# EAGLE library part MAX9850 (library cruz_technologies)
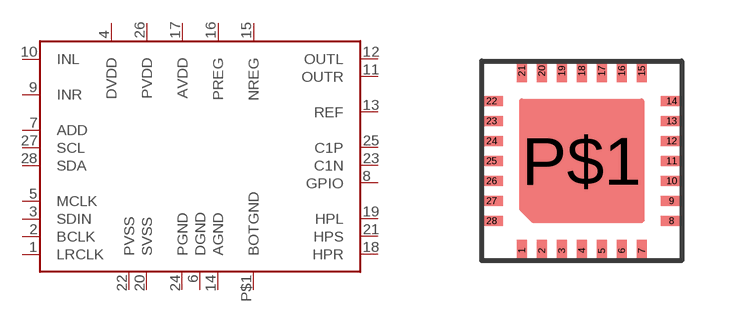
[diagram p8: symbol with the pads of TQFN28; footprint TQFN28]

Designator prefix -

## MAX9850  [TQFN28]
1  LRCLK
2  BCLK
3  SDIN
4  DVDD
5  MCLK
6  DGND
7  ADD
8  GPIO
9  INR
10  INL
11  OUTR
12  OUTL
13  REF
14  AGND
15  NREG
16  PREG
17  AVDD
18  HPR
19  HPL
20  SVSS
21  HPS
22  PVSS
23  C1N
24  PGND
25  C1P
26  PVDD
27  SCL
28  SDA
P$1  BOTGND

## Footprint TQFN28 (pad centres in mm)
smd 0.25 x 0.55: 1 -1.5,-2.25; 2 -1,-2.25; 3 -0.5,-2.25; 4 0,-2.25; 5 0.5,-2.25; 6 1,-2.25; 7 1.5,-2.25; 15 1.5,2.25; 16 1,2.25; 17 0.5,2.25; 18 0,2.25; 19 -0.5,2.25; 20 -1,2.25; 21 -1.5,2.25
smd 0.55 x 0.25: 8 2.25,-1.5; 9 2.25,-1; 10 2.25,-0.5; 11 2.25,0; 12 2.25,0.5; 13 2.25,1; 14 2.25,1.5; 22 -2.25,1.5; 23 -2.25,1; 24 -2.25,0.5; 25 -2.25,0; 26 -2.25,-0.5; 27 -2.25,-1; 28 -2.25,-1.5
smd 2.7 x 2.7: P$1 0,0